# Altium footprint library Pack_Bionics_PcbLib.PcbLib: 40 footprints (part 1 of 3)
Each footprint in its own frame and in the unit in brackets; x right, y up, seen from the top. Pads: shape width x height; smd on the part's side, far side on the other; paste and mask are expansions set on the pad; w line width, h text height; cw(c..) or ccw(c..) is an arc to the next point about the centre after c.
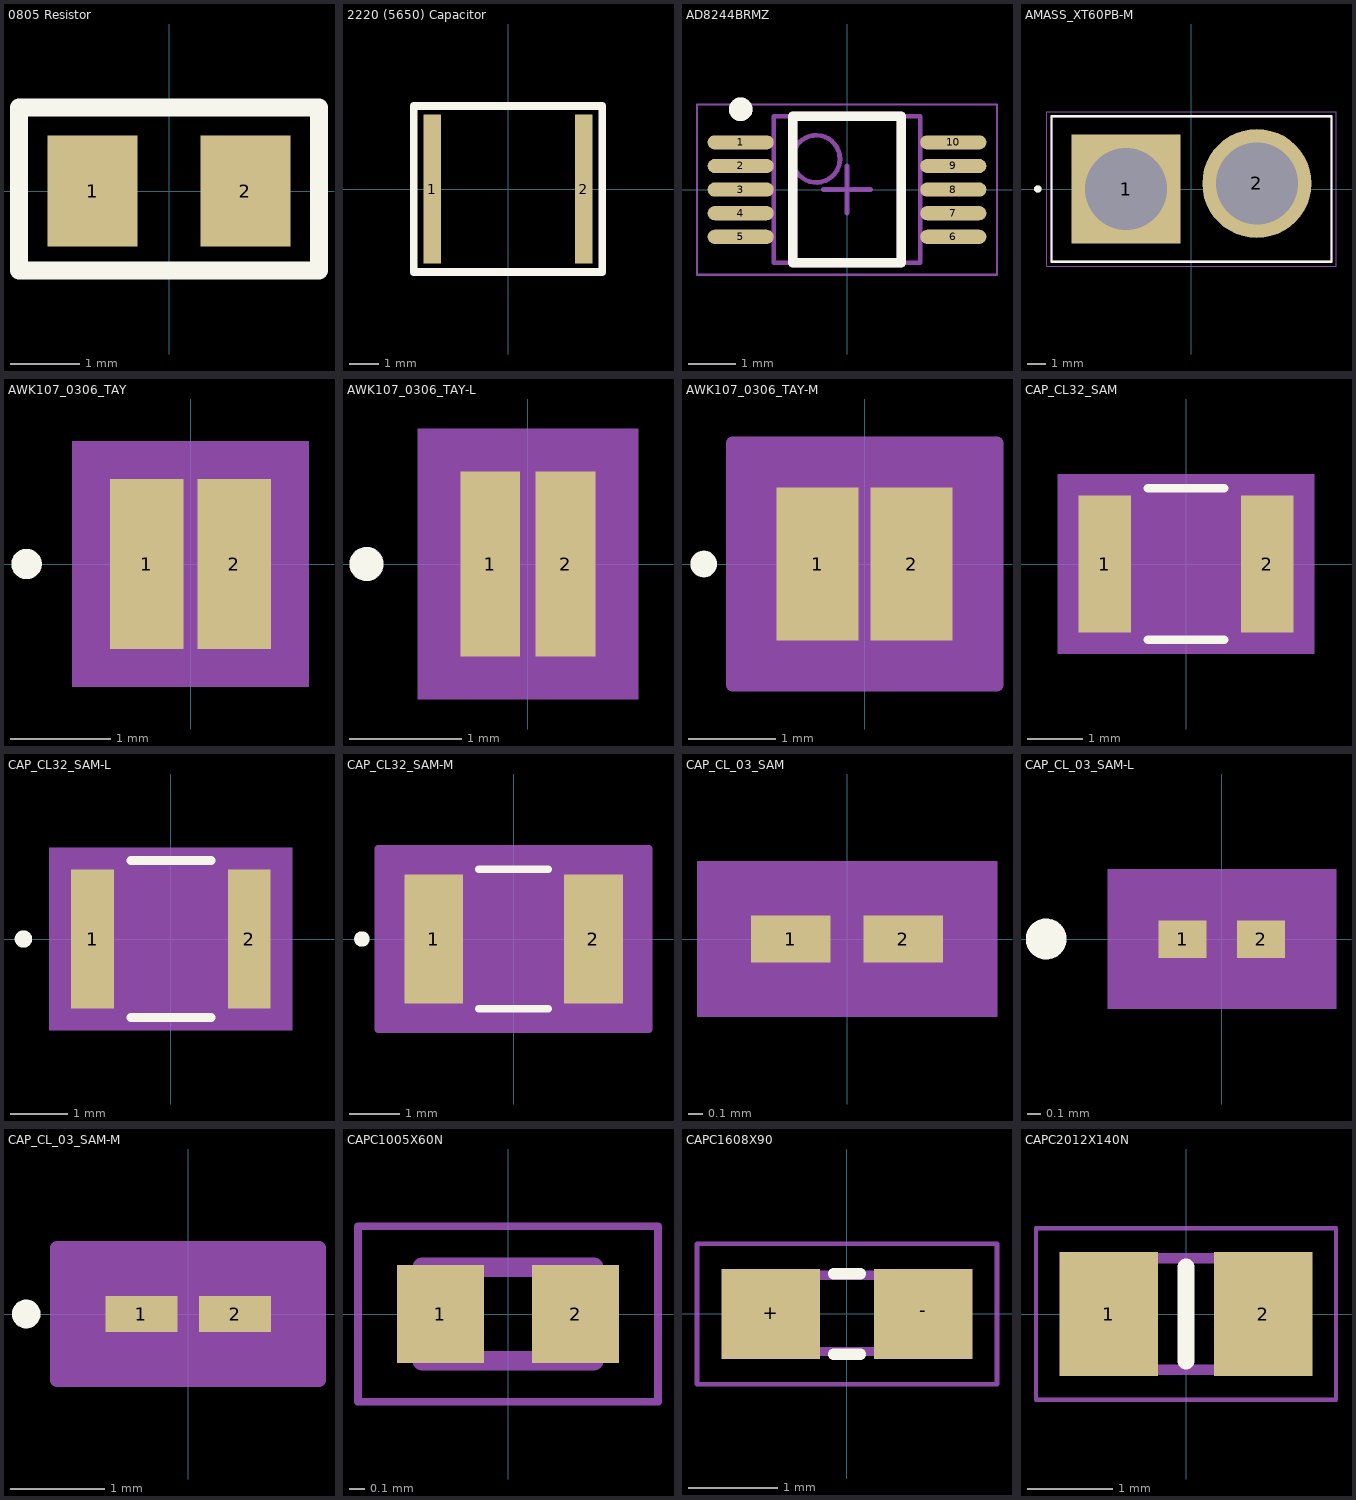
[diagram p0: the footprints below, top view; thin cyan lines are the x and y axes]

## 0805 Resistor [mm]
pads (2):
  rect 1.3x1.6 smd: 1(-1.1,0) 2(1.1,0)
Top Overlay:
  lines w0.254: -2.159,-1.143 -2.159,1.204 2.159,1.204 2.159,-1.143 -2.159,-1.143
Mechanical 1:
  text "'.Designator'" at -1.854,-0.33 h1.52

## 2220 (5650) Capacitor [mm]
pads (2):
  rect 0.6x5 smd: 1(-2.55,0) 2(2.55,0)
Top Overlay:
  lines w0.254: -3.175,-2.794 3.175,-2.794 3.175,2.794 -3.175,2.794 -3.175,0.285 -3.175,-2.794
Mechanical 1:
  text "'.Designator'" at -2.743,-1.854 h1.52

## AD8244BRMZ [mm] "Op Amp Quad Low Power Amplifier R-R O/P ±18V/36V 10-Pin MSOP Tube"
pads (10):
  oval 1.4x0.3 smd: 1(-2.25,1) 2(-2.25,0.5) 3(-2.25,0) 4(-2.25,-0.5) 5(-2.25,-1) 6(2.25,-1) 7(2.25,-0.5) 8(2.25,0) 9(2.25,0.5) 10(2.25,1)
Top Overlay:
  circle w0.25: c-2.25,1.7 r0.125
  lines w0.2: -1.15,-1.55 -1.15,1.55 1.15,1.55 1.15,-1.55 -1.15,-1.55
Mechanical 1:
  circle w0.25: c-2.25,1.7 r0.125
  lines w0.2: -1.15,-1.55 -1.15,1.55 1.15,1.55 1.15,-1.55 -1.15,-1.55
  text "'.Designator'" at -0.972,-0.864 h1.52
Mechanical 13:
  circle w0.1: c-0.65,0.65 r0.5
  lines w0.1: -1.55,-1.55 -1.55,1.55 1.55,1.55 1.55,-1.55 -1.55,-1.55
Mechanical 15:
  lines w0.05: -3.175,-1.8 -3.175,1.8 3.175,1.8 3.175,-1.8 -3.175,-1.8
  lines w0.1: -0.5,0 0.5,0 ; 0,-0.5 0,0.5
3D body: height 1.1, standoff 0.05, extent -1.55,-1.55 1.55,1.55

## AMASS_XT60PB-M [mm]
pads (2):
  rect 6x6 hole 4.5: 1(-3.6,0)
  round 6 hole 4.5: 2(3.6,0.305)
Top Overlay:
  circle w0.2: c-2.54,-2.222 r0.1
  circle w0.2: c-8.45,0 r0.1
  lines w0.127: -7.7,-4 7.7,-4 7.7,4 -7.7,4 -7.7,-4
Mechanical 13:
  circle w0.2: c-2.54,-2.222 r0.1
  circle w0.2: c-8.45,0 r0.1
  lines w0.127: -7.7,-4 7.7,-4 7.7,4 -7.7,4 -7.7,-4
Mechanical 15:
  lines w0.05: -7.95,-4.25 7.95,-4.25 7.95,4.25 -7.95,4.25 -7.95,-4.25

## AWK107_0306_TAY [mil]
pads (2):
  rect 29x66.93 smd paste+0 mask+0: 1(-17.22,0) 2(17.22,0)
Top Overlay:
  circle w6: c-64.72,0 r3
Mechanical 5:
  region: 46.72,-48.46 -46.72,-48.46 -46.72,48.46 46.72,48.46
Mechanical 13:
  circle w0: c-12.22,0 r3
  lines w1: -17.72,-33.46 -17.72,33.46 ; -17.72,-33.46 17.72,-33.46 ; -17.72,-33.46 -2.72,-33.46 -2.72,33.46 -17.72,33.46 ; -17.72,-33.46 -17.72,33.46 ; -17.72,33.46 17.72,33.46 ; 17.72,-33.46 17.72,33.46 ; 17.72,-33.46 17.72,33.46 ; 17.72,-33.46 2.72,-33.46 2.72,33.46 17.72,33.46
Mechanical 15:
  region: 41.72,-43.46 -41.72,-43.46 -41.72,43.46 41.72,43.46
  lines w6: -41.72,-43.46 41.72,-43.46 41.72,43.46 -41.72,43.46 -41.72,-43.46
3D body "AWK107_0306_TAY.step": height 21.65, standoff 0, extent -17.72,-33.46 17.72,33.46

## AWK107_0306_TAY-L [mil]
pads (2):
  rect 21x64.93 smd paste+0 mask+0: 1(-13.22,0) 2(13.22,0)
Top Overlay:
  circle w6: c-56.72,0 r3
Mechanical 5:
  region: 38.72,-47.46 -38.72,-47.46 -38.72,47.46 38.72,47.46
Mechanical 13:
  circle w0: c-8.22,0 r3
  lines w1: -17.72,-33.46 -17.72,33.46 ; -17.72,-33.46 17.72,-33.46 ; -17.72,-33.46 -2.72,-33.46 -2.72,33.46 -17.72,33.46 ; -17.72,-33.46 -17.72,33.46 ; -17.72,33.46 17.72,33.46 ; 17.72,-33.46 17.72,33.46 ; 17.72,-33.46 17.72,33.46 ; 17.72,-33.46 2.72,-33.46 2.72,33.46 17.72,33.46
Mechanical 15:
  region: 27.72,-36.46 -27.72,-36.46 -27.72,36.46 27.72,36.46
  lines w6: -27.72,-36.46 27.72,-36.46 27.72,36.46 -27.72,36.46 -27.72,-36.46
3D body "AWK107_0306_TAY.step": height 21.65, standoff 0, extent -17.72,-33.46 17.72,33.46

## AWK107_0306_TAY-M [mil]
pads (2):
  rect 37x68.93 smd paste+0 mask+0: 1(-21.22,0) 2(21.22,0)
Top Overlay:
  circle w6: c-72.72,0 r3
Mechanical 5:
  region: 54.72,-49.46 -54.72,-49.46 -54.72,49.46 54.72,49.46
Mechanical 13:
  circle w0: c-16.22,0 r3
  lines w1: -17.72,-33.46 -17.72,33.46 ; -17.72,-33.46 17.72,-33.46 ; -17.72,-33.46 -2.72,-33.46 -2.72,33.46 -17.72,33.46 ; -17.72,-33.46 -17.72,33.46 ; -17.72,33.46 17.72,33.46 ; 17.72,-33.46 17.72,33.46 ; 17.72,-33.46 17.72,33.46 ; 17.72,-33.46 2.72,-33.46 2.72,33.46 17.72,33.46
Mechanical 15:
  region: 59.72,-54.46 -59.72,-54.46 -59.72,54.46 59.72,54.46
  lines w6: -59.72,-54.46 59.72,-54.46 59.72,54.46 -59.72,54.46 -59.72,-54.46
3D body "AWK107_0306_TAY.step": height 21.65, standoff 0, extent -17.72,-33.46 17.72,33.46

## CAP_CL32_SAM [mm]
pads (2):
  rect 0.956x2.5 smd paste+0 mask+0: 1(-1.478,0) 2(1.478,0)
Top Overlay:
  lines w0.152: -0.692,-1.377 0.692,-1.377 ; -0.692,1.377 0.692,1.377
Mechanical 5:
  region: 2.337,-1.631 -2.337,-1.631 -2.337,1.631 2.337,1.631
Mechanical 13:
  lines w0.025: -1.6,-1.25 -1.6,1.25 ; -1.6,-1.25 1.6,-1.25 ; -1.6,-1.25 -1,-1.25 -1,1.25 -1.6,1.25 ; -1.6,-1.25 -1.6,1.25 ; -1.6,1.25 1.6,1.25 ; 1.6,-1.25 1.6,1.25 ; 1.6,-1.25 1.6,1.25 ; 1.6,-1.25 1,-1.25 1,1.25 1.6,1.25
Mechanical 15:
  region: 2.21,-1.504 -2.21,-1.504 -2.21,1.504 2.21,1.504
  lines w0.152: -2.21,-1.504 2.21,-1.504 2.21,1.504 -2.21,1.504 -2.21,-1.504
3D body "CAP_CL32_SAM.step": height 1, standoff 0, extent -1.6,-1.25 1.6,1.25

## CAP_CL32_SAM-L [mil]
pads (2):
  rect 29.62x96.43 smd paste+0 mask+0: 1(-54.18,0) 2(54.18,0)
Top Overlay:
  circle w6: c-101.99,0 r3
  lines w6: -27.72,-54.21 27.72,-54.21 ; -27.72,54.21 27.72,54.21
Mechanical 5:
  region: 83.99,-63.21 -83.99,-63.21 -83.99,63.21 83.99,63.21
Mechanical 13:
  circle w0: c-49.18,0 r3
  lines w1: -62.99,-49.21 -62.99,49.21 ; -62.99,-49.21 62.99,-49.21 ; -62.99,-49.21 -39.37,-49.21 -39.37,49.21 -62.99,49.21 ; -62.99,-49.21 -62.99,49.21 ; -62.99,49.21 62.99,49.21 ; 62.99,-49.21 62.99,49.21 ; 62.99,-49.21 62.99,49.21 ; 62.99,-49.21 39.37,-49.21 39.37,49.21 62.99,49.21
Mechanical 15:
  region: 72.99,-52.21 -72.99,-52.21 -72.99,52.21 72.99,52.21
  lines w6: -72.99,-52.21 72.99,-52.21 72.99,52.21 -72.99,52.21 -72.99,-52.21
3D body "CAP_CL32_SAM.step": height 39.37, standoff 0, extent -62.99,-49.21 62.99,49.21

## CAP_CL32_SAM-M [mil]
pads (2):
  rect 45.62x100.43 smd paste+0 mask+0: 1(-62.18,0) 2(62.18,0)
Top Overlay:
  circle w6: c-117.99,0 r3
  lines w6: -26.9,-54.21 26.9,-54.21 ; -26.9,54.21 26.9,54.21
Mechanical 5:
  region: 99.99,-65.21 -99.99,-65.21 -99.99,65.21 99.99,65.21
Mechanical 13:
  circle w0: c-57.18,0 r3
  lines w1: -62.99,-49.21 -62.99,49.21 ; -62.99,-49.21 -39.37,-49.21 -39.37,49.21 -62.99,49.21 ; -62.99,-49.21 62.99,-49.21 ; -62.99,-49.21 -62.99,49.21 ; -62.99,49.21 62.99,49.21 ; 62.99,-49.21 39.37,-49.21 39.37,49.21 62.99,49.21 ; 62.99,-49.21 62.99,49.21 ; 62.99,-49.21 62.99,49.21
Mechanical 15:
  region: 104.99,-70.21 -104.99,-70.21 -104.99,70.21 104.99,70.21
  lines w6: -104.99,-70.21 -104.99,70.21 104.99,70.21 104.99,-70.21 -104.99,-70.21
3D body "CAP_CL32_SAM.step": height 39.37, standoff 0, extent -62.99,-49.21 62.99,49.21

## CAP_CL_03_SAM [mil]
pads (2):
  rect 22x13 smd paste+0 mask+0: 1(-15.5,0) 2(15.5,0)
Mechanical 5:
  region: 41.5,-21.5 -41.5,-21.5 -41.5,21.5 41.5,21.5
Mechanical 13:
  lines w1: -12.5,-6.5 -12.5,6.5 ; -12.5,-6.5 12.5,-6.5 ; -12.5,-6.5 -4.5,-6.5 -4.5,6.5 -12.5,6.5 ; -12.5,-6.5 -12.5,6.5 ; -12.5,6.5 12.5,6.5 ; 12.5,-6.5 12.5,6.5 ; 12.5,-6.5 12.5,6.5 ; 12.5,-6.5 4.5,-6.5 4.5,6.5 12.5,6.5
Mechanical 15:
  region: 36.5,-16.5 -36.5,-16.5 -36.5,16.5 36.5,16.5
  lines w6: -36.5,-16.5 36.5,-16.5 36.5,16.5 -36.5,16.5 -36.5,-16.5
3D body "CAP_CL_03_SAM.step": height 12.99, standoff 0, extent -12.52,-6.5 12.52,6.5

## CAP_CL_03_SAM-L [mil]
pads (2):
  rect 14x11 smd paste+0 mask+0: 1(-11.5,0) 2(11.5,0)
Top Overlay:
  circle w6: c-51.5,0 r3
Mechanical 5:
  region: 33.5,-20.5 -33.5,-20.5 -33.5,20.5 33.5,20.5
Mechanical 13:
  circle w0: c-6.5,0 r3
  lines w1: -12.5,-6.5 -12.5,6.5 ; -12.5,-6.5 -4.5,-6.5 -4.5,6.5 -12.5,6.5 ; -12.5,-6.5 12.5,-6.5 ; -12.5,-6.5 -12.5,6.5 ; -12.5,6.5 12.5,6.5 ; 12.5,-6.5 4.5,-6.5 4.5,6.5 12.5,6.5 ; 12.5,-6.5 12.5,6.5 ; 12.5,-6.5 12.5,6.5
Mechanical 15:
  region: 22.5,-9.5 -22.5,-9.5 -22.5,9.5 22.5,9.5
  lines w6: -22.5,-9.5 -22.5,9.5 22.5,9.5 22.5,-9.5 -22.5,-9.5
3D body "CAP_CL_03_SAM.step": height 12.99, standoff 0, extent -12.52,-6.5 12.52,6.5

## CAP_CL_03_SAM-M [mil]
pads (2):
  rect 30x15 smd paste+0 mask+0: 1(-19.5,0) 2(19.5,0)
Top Overlay:
  circle w6: c-67.5,0 r3
Mechanical 5:
  region: 49.5,-22.5 -49.5,-22.5 -49.5,22.5 49.5,22.5
Mechanical 13:
  circle w0: c-14.5,0 r3
  lines w1: -12.5,-6.5 -12.5,6.5 ; -12.5,-6.5 12.5,-6.5 ; -12.5,-6.5 -4.5,-6.5 -4.5,6.5 -12.5,6.5 ; -12.5,-6.5 -12.5,6.5 ; -12.5,6.5 12.5,6.5 ; 12.5,-6.5 12.5,6.5 ; 12.5,-6.5 12.5,6.5 ; 12.5,-6.5 4.5,-6.5 4.5,6.5 12.5,6.5
Mechanical 15:
  region: 54.5,-27.5 -54.5,-27.5 -54.5,27.5 54.5,27.5
  lines w6: -54.5,-27.5 54.5,-27.5 54.5,27.5 -54.5,27.5 -54.5,-27.5
3D body "CAP_CL_03_SAM.step": height 12.99, standoff 0, extent -12.52,-6.5 12.52,6.5

## CAPC1005X60N [mm]
pads (2):
  rect 0.56x0.63 smd: 1(-0.435,0) 2(0.435,0)
Mechanical 13:
  lines w0.127: -0.55,-0.3 0.55,-0.3 0.55,0.3 -0.55,0.3 -0.55,-0.3
Mechanical 15:
  lines w0.05: -0.965,-0.565 0.965,-0.565 0.965,0.565 -0.965,0.565 -0.965,-0.565

## CAPC1608X90 [mm]
pads (2):
  rect 1.1x1 smd: +(-0.85,0) -(0.85,0)
Top Overlay:
  lines w0.127: -0.15,-0.45 0.15,-0.45 ; -0.15,0.45 0.15,0.45
Mechanical 13:
  region: 0.83,-0.471 0.331,-0.471 0.331,0.48 0.83,0.48
  region: -0.338,-0.47 -0.839,-0.47 -0.839,0.48 -0.338,0.48
  lines w0.102: -0.356,-0.419 0.356,-0.419 ; -0.356,0.432 0.356,0.432
Mechanical 15:
  lines w0.051: -1.673,-0.783 -1.673,0.783 1.673,0.783 1.673,-0.783 -1.673,-0.783

## CAPC2012X140N [mm]
pads (2):
  rect 1.15x1.45 smd: 1(-0.9,0) 2(0.9,0)
Top Overlay:
  lines w0.2: 0,-0.55 0,0.55
Mechanical 13:
  region: -0.5,-0.65 -1,-0.65 -1,0.65 -0.5,0.65
  region: 1,-0.65 0.5,-0.65 0.5,0.65 1,0.65
  lines w0.127: -1,-0.65 1,-0.65 1,0.65 -1,0.65 -1,-0.65
Mechanical 15:
  lines w0.05: -1.75,-1 1.75,-1 1.75,1 -1.75,1 -1.75,-1